# EAGLE library part WASPMOTE_V1.5 (library Backplate_2)
WaspMote v1.5 (c) 2017 john.hulth@geo.uio.no
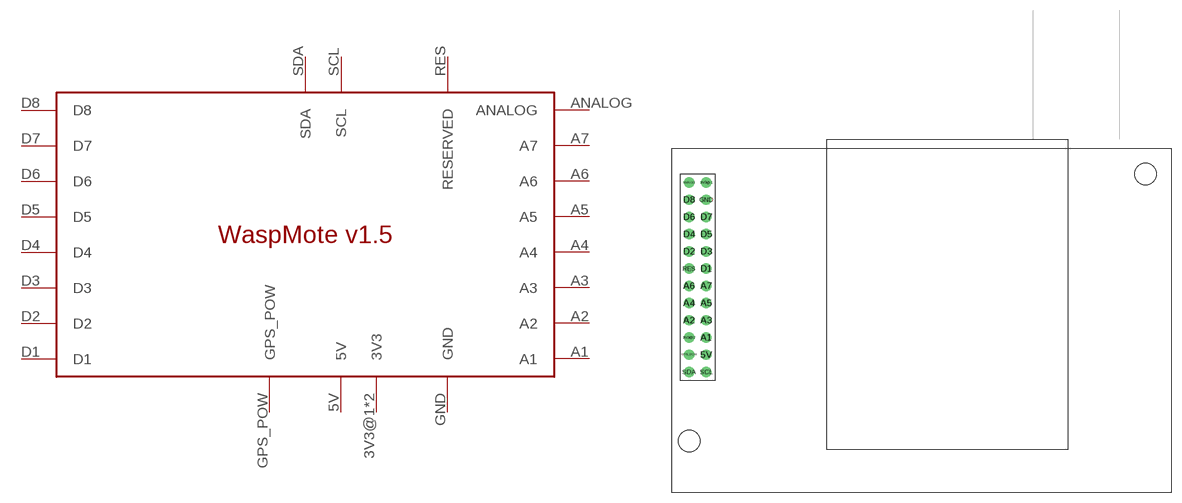
[diagram p2: symbol with the pads of WASPMOTE_V1.5; footprint WASPMOTE_V1.5]

Designator prefix -

## WASPMOTE_V1.5  [WASPMOTE_V1.5]
3V3@1  3V3
3V3@2  3V3
5V  5V
A1  A1
A2  A2
A3  A3
A4  A4
A5  A5
A6  A6
A7  A7
ANALOG  ANALOG
D1  D1
D2  D2
D3  D3
D4  D4
D5  D5
D6  D6
D7  D7
D8  D8
GND  GND
GPS_POW  GPS_POW
RES  RESERVED
SCL  SCL
SDA  SDA

## Footprint WASPMOTE_V1.5 (pad centres in mm)
WaspMote v1.5 (c) 2017 john.hulth@geo.uio.no
drill 1.016: 3V3@1 5.08,45.72; 3V3@2 2.54,22.86; 5V 5.08,20.32; A1 5.08,22.86; A2 2.54,25.4; A3 5.08,25.4; A4 2.54,27.94; A5 5.08,27.94; A6 2.54,30.48; A7 5.08,30.48; ANALOG 2.54,45.72; D1 5.08,33.02; D2 2.54,35.56; D3 5.08,35.56; D4 2.54,38.1; D5 5.08,38.1; D6 2.54,40.64; D7 5.08,40.64; D8 2.54,43.18; GND 5.08,43.18; GPS_POW 2.54,20.32; RES 2.54,33.02; SCL 5.08,17.78; SDA 2.54,17.78
hole 3.2 at 2.54,7.62
hole 3.2 at 69.85,46.99